# Altium footprint library MainBLib.PcbLib: 36 footprints (part 2 of 3)
Each footprint in its own frame and in the unit in brackets; x right, y up, seen from the top. Pads: shape width x height; smd on the part's side, far side on the other; paste and mask are expansions set on the pad; w line width, h text height; cw(c..) or ccw(c..) is an arc to the next point about the centre after c.
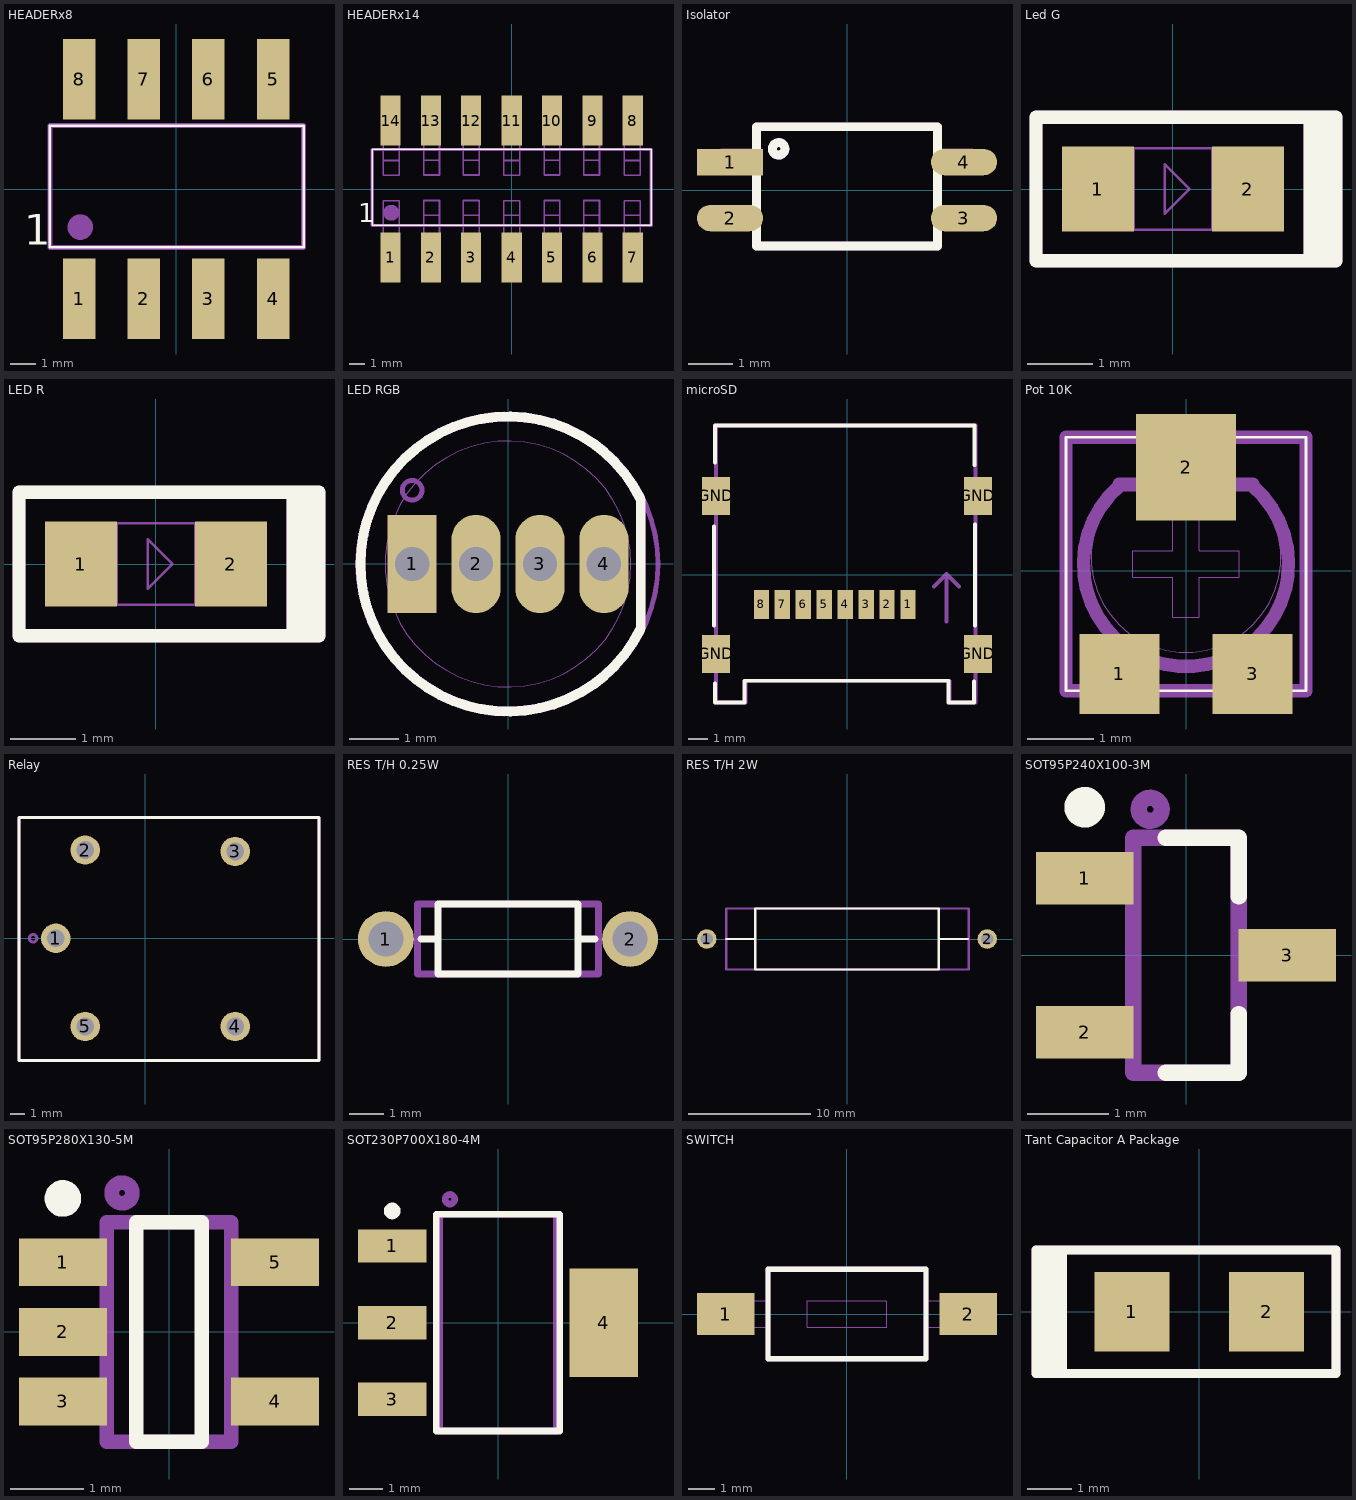
[diagram p1: the footprints below, top view; thin cyan lines are the x and y axes]

## HEADERx8 [mm]
pads (8):
  rect 1.27x3.18 smd: 1(-3.82,-4.32) 2(-1.28,-4.32) 3(1.26,-4.32) 4(3.82,-4.32) 5(3.82,4.32) 6(1.26,4.32) 7(-1.28,4.32) 8(-3.82,4.32)
Top Overlay:
  lines w0.1: -4.98,-2.3 -4.98,2.5 5.02,2.5 5.02,-2.3 -4.98,-2.3
  text "1" at -5.98,-2.2 h1.2
Mechanical 1:
  lines w0.1: -4.98,-2.3 5.02,-2.3 5.02,2.5 -4.98,2.5 -4.98,-2.3
Mechanical 29:
  circle w0.8: c-3.78,-1.5 r0.1
  lines w0.2: -4.98,-2.3 5.02,-2.3 5.02,2.5 -4.98,2.5 -4.98,-2.3
  text "'.Designator'" at -1.08,-0.4 h1.2
3D body: height 1, standoff 0, extent 3.321,1.801 4.32,5.3
3D body: height 9, standoff 0, extent 3.321,0.881 4.32,1.8
3D body: height 1, standoff 0, extent 0.761,1.806 1.76,5.305
3D body: height 9, standoff 0, extent 0.761,0.886 1.76,1.805
3D body: height 1, standoff 0, extent -1.739,1.806 -0.74,5.305
3D body: height 9, standoff 0, extent -1.739,0.886 -0.74,1.805
3D body: height 1, standoff 0, extent -4.279,1.801 -3.28,5.3
3D body: height 9, standoff 0, extent -4.279,0.881 -3.28,1.8
3D body: height 9, standoff 0, extent 3.321,-1.649 4.32,-0.73
3D body: height 9, standoff 0, extent 0.761,-1.644 1.76,-0.725
3D body: height 1, standoff 0, extent 3.321,-5.149 4.32,-1.65
3D body: height 1, standoff 0, extent 0.761,-5.144 1.76,-1.645
3D body: height 9, standoff 0, extent -1.739,-1.644 -0.74,-0.725
3D body: height 9, standoff 0, extent -4.279,-1.649 -3.28,-0.73
3D body: height 1, standoff 0, extent -1.739,-5.144 -0.74,-1.645
3D body: height 1, standoff 0, extent -4.279,-5.149 -3.28,-1.65
3D body: height 3.54, standoff 1, extent -5.03,-2.35 5.07,2.55

## HEADERx14 [mm]
pads (14):
  rect 1.27x3.18 smd: 1(-7.64,-4.32) 2(-5.1,-4.32) 3(-2.56,-4.32) 4(0,-4.32) 5(2.54,-4.32) 6(5.1,-4.32) 7(7.64,-4.32) 8(7.64,4.32) 9(5.1,4.32) 10(2.54,4.32) 11(0,4.32) 12(-2.56,4.32) 13(-5.1,4.32) 14(-7.64,4.32)
Top Overlay:
  lines w0.1: -8.8,-2.3 8.8,-2.3 8.8,2.5 -8.8,2.5 -8.8,-2.3
  text "1" at -9.7,-2.1 h1.2
Mechanical 1:
  lines w0.1: -8.1,-1.65 -7.1,-1.65 ; -8.1,1.8 -7.1,1.8 ; -8.1,2.5 -8.8,2.5 ; -8.099,-2.3 -8.799,-2.3 ; -7.1,-2.3 -5.559,-2.3 ; -7.1,2.501 -5.559,2.501 ; -5.56,-1.645 -4.56,-1.645 ; -5.56,1.805 -4.56,1.805 ; -4.56,-2.3 -3.059,-2.3 ; -4.56,2.501 -3.059,2.501 ; -3.06,-1.645 -2.06,-1.645 ; -3.06,1.805 -2.06,1.805 ; -2.06,-2.3 -1.2,-2.3 ; -2.06,2.501 -1.2,2.501 -0.5,2.5 ; -1.199,-2.3 -0.499,-2.3 ; -0.5,-1.65 0.5,-1.65 ; -0.5,1.8 0.5,1.8 ; 0.5,-2.3 2.041,-2.3 ; 0.5,2.501 2.041,2.501 ; 2.04,-1.645 3.04,-1.645 ; 2.04,1.805 3.04,1.805 ; 3.04,-2.3 4.541,-2.3 ; 3.04,2.501 4.541,2.501 ; 4.54,-1.645 5.54,-1.645 ; 4.54,1.805 5.54,1.805 ; 5.54,-2.3 6.4,-2.3 ; 5.54,2.501 6.4,2.501 7.1,2.5 ; 6.401,-2.3 7.101,-2.3 ; 7.1,-1.65 8.1,-1.65 ; 7.1,1.8 8.1,1.8 ; 8.1,-2.3 8.8,-2.3 ; 8.099,2.501 8.799,2.501 ; -8.8,-2.3 -8.8,2.5 ; -8.8,-2.3 -8.8,2.5 ; -8.8,-2.3 8.8,-2.3 ; -8.8,2.5 8.8,2.5 ; 8.8,-2.3 8.8,2.5 ; 8.8,-2.3 8.8,2.5 ; -8.1,-5.15 -8.1,-0.73 -7.1,-0.73 -7.1,-5.15 -8.1,-5.15 ; -8.1,0.88 -7.1,0.88 -7.1,5.3 -8.1,5.3 -8.1,0.88 ; -5.56,-5.145 -4.56,-5.145 -4.56,-0.725 -5.56,-0.725 -5.56,-5.145 ; -5.56,0.885 -5.56,5.305 -4.56,5.305 -4.56,0.885 -5.56,0.885 ; -3.06,-5.145 -2.06,-5.145 -2.06,-0.725 -3.06,-0.725 -3.06,-5.145 ; -3.06,0.885 -3.06,5.305 -2.06,5.305 -2.06,0.885 -3.06,0.885 ; -0.5,-5.15 -0.5,-0.73 0.5,-0.73 0.5,-5.15 -0.5,-5.15 ; -0.5,0.88 0.5,0.88 0.5,5.3 -0.5,5.3 -0.5,0.88 ; 2.04,-5.145 3.04,-5.145 3.04,-0.725 2.04,-0.725 2.04,-5.145 ; 2.04,0.885 2.04,5.305 3.04,5.305 3.04,0.885 2.04,0.885 ; 4.54,-5.145 5.54,-5.145 5.54,-0.725 4.54,-0.725 4.54,-5.145 ; 4.54,0.885 4.54,5.305 5.54,5.305 5.54,0.885 4.54,0.885 ; 7.1,-5.15 7.1,-0.73 8.1,-0.73 8.1,-5.15 7.1,-5.15 ; 7.1,0.88 8.1,0.88 8.1,5.3 7.1,5.3 7.1,0.88
Mechanical 29:
  circle w0.8: c-7.6,-1.5 r0.1
  lines w0.2: -8.8,-2.3 -8.8,2.5 8.8,2.5 8.8,-2.3 -8.8,-2.3
  text "'.Designator'" at -1.9,-0.4 h1.2
3D body: height 1, standoff 0, extent -8.099,-5.149 -7.1,-1.65
3D body: height 1, standoff 0, extent -5.559,-5.144 -4.56,-1.645
3D body: height 9, standoff 0, extent -8.099,-1.649 -7.1,-0.73
3D body: height 9, standoff 0, extent -5.559,-1.644 -4.56,-0.725
3D body: height 1, standoff 0, extent -3.059,-5.144 -2.06,-1.645
3D body: height 1, standoff 0, extent -0.499,-5.149 0.5,-1.65
3D body: height 9, standoff 0, extent -3.059,-1.644 -2.06,-0.725
3D body: height 9, standoff 0, extent -0.499,-1.649 0.5,-0.73
3D body: height 9, standoff 0, extent -8.099,0.881 -7.1,1.8
3D body: height 1, standoff 0, extent -8.099,1.801 -7.1,5.3
3D body: height 9, standoff 0, extent -5.559,0.886 -4.56,1.805
3D body: height 1, standoff 0, extent -5.559,1.806 -4.56,5.305
3D body: height 9, standoff 0, extent -3.059,0.886 -2.06,1.805
3D body: height 1, standoff 0, extent -3.059,1.806 -2.06,5.305
3D body: height 9, standoff 0, extent -0.499,0.881 0.5,1.8
3D body: height 1, standoff 0, extent -0.499,1.801 0.5,5.3
3D body: height 1, standoff 0, extent 2.041,-5.144 3.04,-1.645
3D body: height 1, standoff 0, extent 4.541,-5.144 5.54,-1.645
3D body: height 9, standoff 0, extent 2.041,-1.644 3.04,-0.725
3D body: height 9, standoff 0, extent 4.541,-1.644 5.54,-0.725
3D body: height 1, standoff 0, extent 7.101,-5.149 8.1,-1.65
3D body: height 9, standoff 0, extent 7.101,-1.649 8.1,-0.73
3D body: height 9, standoff 0, extent 2.041,0.886 3.04,1.805
3D body: height 1, standoff 0, extent 2.041,1.806 3.04,5.305
3D body: height 9, standoff 0, extent 4.541,0.886 5.54,1.805
3D body: height 1, standoff 0, extent 4.541,1.806 5.54,5.305
3D body: height 9, standoff 0, extent 7.101,0.881 8.1,1.8
3D body: height 1, standoff 0, extent 7.101,1.801 8.1,5.3
3D body: height 3.54, standoff 1, extent -8.799,-2.299 8.799,2.499

## Isolator [mm]
pads (4):
  rect 1.5x0.6 smd: 1(-2.65,0.635)
  oval 1.5x0.6 smd: 2(-2.65,-0.635) 3(2.65,-0.635) 4(2.65,0.635)
Top Overlay:
  circle w0.2: c-1.55,0.935 r0.141
  lines w0.2: -2.05,-1.265 2.05,-1.265 2.05,1.435 -2.05,1.435 -2.05,-1.265
Mechanical 1:
  circle w0: c-1.55,0.935 r0.141
  lines w0: -2.05,-0.865 -2.85,-0.865 -2.85,-0.365 -2.05,-0.365 ; -2.05,0.435 -2.85,0.435 -2.85,0.935 -2.05,0.935 ; 2.05,-0.865 2.85,-0.865 2.85,-0.365 2.05,-0.365 ; 2.05,0.435 2.85,0.435 2.85,0.935 2.05,0.935 ; -2.05,-1.265 -2.05,1.435 2.05,1.435 2.05,-1.265 -2.05,-1.265
Mechanical 29:
  circle w0.2: c-1.55,0.935 r0.141
  lines w0.2: -2.05,-1.265 -2.05,1.435 2.05,1.435 2.05,-1.265 -2.05,-1.265
  text "'.Designator'" at -0.85,-0.365 h1.2
3D body: height 2.01, standoff 2, extent -1.691,0.794 -1.409,1.076
3D body: height 0.2, standoff 0, extent 2.051,0.436 2.849,0.934
3D body: height 0.2, standoff 0, extent 2.051,-0.864 2.849,-0.366
3D body: height 0.2, standoff 0, extent -2.849,0.436 -2.051,0.934
3D body: height 2, standoff 0, extent -2.049,-1.264 2.049,1.434
3D body: height 0.2, standoff 0, extent -2.849,-0.864 -2.051,-0.366

## Led G [mm]
pads (2):
  rect 1.1x1.3 smd: 1(-1.15,0) 2(1.15,0)
Top Overlay:
  rectangle: 2,-1.1 2.5,1.1
  lines w0.2: -2.1,-1.1 -2.1,1.1 2.5,1.1 2.5,-1.1 -2.1,-1.1
Mechanical 1:
  lines w0.04: -0.6,-0.625 -0.6,0.625 ; -0.599,-0.624 0.599,-0.624 ; -0.6,-0.625 -0.599,-0.624 ; -0.6,-0.625 -1,-0.625 -1,-0.2 ccw(c-1,0) -1,0.2 -1,0.625 -0.6,0.625 ; -0.6,0.625 -0.6,0.625 ; -0.599,0.624 0.599,0.624 ; 0.6,-0.625 0.6,0.625 ; 0.6,-0.625 1,-0.625 1,-0.2 cw(c1,0) 1,0.2 1,0.625 0.6,0.625 ; -0.125,-0.376 -0.125,0.375 0.25,0 -0.125,-0.375 -0.125,-0.376
Mechanical 29:
  rectangle: 2,-1.1 2.5,1.1
  lines w0.2: -2.1,-1.1 2.5,-1.1 2.5,1.1 -2.1,1.1 -2.1,-1.1
  text "'.Designator'" at -1.1,-0.6 h1.2
3D body: height 1.1, standoff 0.6, extent -0.599,-0.624 0.599,0.624
3D body: height 0.6, standoff 0, extent -1.02,-0.645 1.02,0.645
3D body: height 0.61, standoff 0, extent -0.126,-0.376 0.251,0.376

## LED R [mm]
pads (2):
  rect 1.1x1.3 smd: 1(-1.15,0) 2(1.15,0)
Top Overlay:
  rectangle: 2,-1.1 2.5,1.1
  lines w0.2: -2.1,-1.1 -2.1,1.1 2.5,1.1 2.5,-1.1 -2.1,-1.1
Mechanical 1:
  lines w0.04: 0.6,-0.624 -0.599,-0.624 ; 0.6,0.625 -0.599,0.625 ; -0.6,-0.625 -0.6,0.625 ; -0.6,-0.625 -0.599,-0.624 ; -0.6,-0.625 -1,-0.625 -1,-0.2 ccw(c-1,0) -1,0.2 -1,0.625 -0.6,0.625 ; -0.6,0.625 -0.6,0.625 ; -0.125,-0.376 -0.125,0.375 0.25,0 -0.125,-0.375 -0.125,-0.376 ; 0.6,-0.625 0.6,0.625 1,0.625 1,0.2 ccw(c1,0) 1,-0.2 1,-0.625 0.6,-0.625
Mechanical 29:
  rectangle: 2,-1.1 2.5,1.1
  lines w0.2: -2.1,-1.1 2.5,-1.1 2.5,1.1 -2.1,1.1 -2.1,-1.1
  text "'.Designator'" at -1.1,-0.6 h1.2
3D body: height 1.1, standoff 0.6, extent -0.599,-0.624 0.6,0.625
3D body: height 0.6, standoff 0, extent -1.02,-0.645 1.02,0.645
3D body: height 0.61, standoff 0, extent -0.125,-0.376 0.251,0.376

## LED RGB [mm]
pads (4):
  rect 1x2 hole 0.7: 1(-1.95,0)
  oval 1x2 hole 0.7: 2(-0.65,0) 3(0.65,0) 4(1.95,0)
Top Overlay:
  lines w0.2: 2.683,-1.342 cw(c0,0) 2.683,1.342 ; 2.7,-1.3 2.7,1.3
Mechanical 1:
  circle w0.1: c0,0 r3.05
  circle w0: c0,0 r2.5
  lines w0: -2.2,-0.25 -2.2,0.25 -1.7,0.25 -1.7,-0.25 -2.2,-0.25 ; -0.9,-0.25 -0.4,-0.25 -0.4,0.25 -0.9,0.25 -0.9,-0.25 ; 0.4,-0.25 0.9,-0.25 0.9,0.25 0.4,0.25 0.4,-0.25 ; 1.7,-0.25 2.2,-0.25 2.2,0.25 1.7,0.25 1.7,-0.25
Mechanical 29:
  circle w0.1: c-1.95,1.5 r0.2
  lines w0.2: 2.683,-1.342 cw(c0,0) 2.683,1.342 ; 2.7,-1.3 2.7,1.3
  text "'.Designator'" at -0.85,-0.5 h1.2
3D body: height 9, standoff 8, extent -3.049,-3.049 3.049,3.049
3D body: height 16.65, standoff 11.65, extent -2.489,-2.497 2.5,2.497
3D body: height 8, standoff -2, extent 1.701,-0.249 2.199,0.249
3D body: height 8, standoff -2, extent 0.401,-0.249 0.899,0.249
3D body: height 8, standoff -2, extent -0.899,-0.249 -0.401,0.249
3D body: height 8, standoff -2, extent -2.199,-0.249 -1.701,0.249
3D body: height 14.15, standoff 8, extent -2.499,-2.499 2.499,2.499

## microSD [mm]
pads (12):
  rect 0.8x1.5 smd: 1(3.205,-1.55) 2(2.105,-1.55) 3(1.005,-1.55) 4(-0.095,-1.55) 5(-1.195,-1.55) 6(-2.295,-1.55) 7(-3.395,-1.55) 8(-4.495,-1.55)
  rect 1.45x2 smd: GND(-6.875,-4.15) GND(-6.875,4.15) GND(6.875,-4.15) GND(6.875,4.15)
Top Overlay:
  lines w0.2: -6.975,-2.65 -6.975,2.55 ; -6.925,-5.7 -6.925,-6.7 -5.375,-6.7 -5.375,-5.575 -5.35,-5.55 5.325,-5.55 5.325,-6.7 6.675,-6.7 6.675,-5.6 ; -6.925,5.9 -6.925,7.85 6.7,7.85 6.7,5.775 ; 6.725,-2.65 6.725,2.65
Mechanical 1:
  lines w0.1: -6.855,-5.05 -7.375,-5.05 -7.375,-4.35 -7.275,-4.25 -7.275,-3.975 -7.375,-3.875 -7.375,-3.25 -6.855,-3.25 ; -6.855,3.3 -7.4,3.3 -7.4,4 -7.3,4.1 -7.3,4.375 -7.4,4.475 -7.4,5.1 -6.855,5.1 ; 6.745,-5.05 7.425,-5.05 7.425,-4.425 7.325,-4.325 7.325,-4.05 7.425,-3.95 7.425,-3.25 6.745,-3.25 ; 6.745,3.25 7.425,3.25 7.425,3.875 7.325,3.975 7.325,4.25 7.425,4.35 7.425,5.05 6.746,5.05 ; -6.825,-6.7 -5.376,-6.7 -5.375,-6.699 -5.375,-5.55 5.325,-5.55 5.325,-6.7 6.744,-6.7 6.725,-6.681 6.725,7.8 -6.825,7.8 -6.825,-6.7
Mechanical 29:
  lines w0.2: 4.575,-0.6 5.225,0.05 ; 5.225,-2.45 5.225,0.05 ; 5.875,-0.6 5.225,0.05 ; 6.725,-6.7 5.375,-6.7 5.375,-5.55 -5.3,-5.55 -5.325,-5.575 -5.325,-6.7 -6.875,-6.7 -6.875,7.85 6.75,7.85 6.75,-6.7 ; 5.225,0.05 5.225,0.05 ; 5.225,0.05 5.225,0.05
  text "'.Designator'" at -1.375,2.05 h1.2
3D body: height 0.1, standoff 0, extent -7.401,-6.701 7.426,7.801
3D body: height 1.9, standoff 0, extent -6.826,-6.701 6.744,7.801

## Pot 10K [mm]
pads (3):
  rect 1.2x1.2 smd: 1(-1,-1.55) 3(1,-1.55)
  rect 1.5x1.6 smd: 2(0,1.55)
Top Overlay:
  lines w0.04: 0,2 1.8,2 ; 1.8,2 -1.8,2 -1.8,-1.8 1.8,-1.8 1.8,2
Mechanical 1:
  lines w0: 0,2 1.8,2 ; 1.8,2 -1.8,2 -1.8,-1.8 1.8,-1.8 1.8,2 ; -1.005,1.2 ccw(c0,0.195) 1.005,1.2 -1.005,1.2 ; -0.8,-0.1 -0.2,-0.1 -0.2,-0.7 0.2,-0.7 0.2,-0.1 0.8,-0.1 0.8,0.3 0.2,0.3 0.2,0.9 -0.2,0.9 -0.2,0.3 -0.8,0.3 -0.8,-0.1
Mechanical 29:
  circle w0.2: c-1.241,-1.4 r0.141
  lines w0.2: -1.005,1.265 ccw(c0,0.1) 1.005,1.265 ; -1.005,1.3 1.005,1.3 ; 0,2 1.8,2 ; 1.8,2 1.8,-1.8 -1.8,-1.8 -1.8,2 1.8,2
  text "'.Designator'" at -0.9,-0.5 h1.2
3D body: height 0.4, standoff 0, extent -1.8,-1.8 1.8,2
3D body: height 1.2, standoff 0.4, extent -1.429,-1.237 1.422,1.201
3D body: height 1.21, standoff 0, extent -0.799,-0.699 0.799,0.899

## Relay [mm]
pads (5):
  round 2 hole 1.2: 1(-6.1,0) 2(-4.1,6) 3(6.1,5.9) 4(6.1,-6) 5(-4.1,-6)
Top Overlay:
  lines w0.2: -8.6,-8.3 11.8,-8.3 11.8,8.2 -8.6,8.2 -8.6,0 -8.6,-8.3 ; -8.6,-8.3 -8.6,-8.3
Mechanical 1:
  circle w0.04: c-6.1,0 r0.5
  circle w0.04: c-4.1,6 r0.5
  circle w0.04: c6.1,5.9 r0.5
  circle w0.04: c6.1,-6 r0.5
  circle w0.04: c-4.1,-6 r0.5
  lines w0.2: -8.6,-8.3 -8.6,0 -8.6,8.2 11.8,8.2 11.8,-8.3 -8.6,-8.3 ; -8.6,-8.3 -8.6,-8.3
Mechanical 29:
  circle w0.2: c-7.641,0 r0.259
  lines w0.2: -8.6,-8.3 -8.6,0 -8.6,8.2 11.8,8.2 11.8,-8.3 -8.6,-8.3 ; -8.6,-8.3 -8.6,-8.3
  text "'.Designator'" at -3.1,-0.2 h1.2
3D body: height 18.5, standoff 0, extent -8.7,-8.4 11.9,8.3
3D body: height 0, standoff -3, extent -4.599,-6.499 -3.601,-5.501
3D body: height 0, standoff -3, extent -6.599,-0.499 -5.601,0.499
3D body: height 0, standoff -3, extent -4.599,5.501 -3.601,6.499
3D body: height 0, standoff -3, extent 5.601,-6.499 6.599,-5.501
3D body: height 0, standoff -3, extent 5.601,5.401 6.599,6.399

## RES T/H 0.25W [mm]
pads (2):
  round 1.6 hole 1: 1(-3.5,0) 2(3.5,0)
Top Overlay:
  lines w0.2: -2.5,0 -2,0 ; 2.5,0 2,0 ; -2,0 -2,-1 2,-1 2,0 ; -2,0 -2,1 2,1 2,0
Mechanical 1:
  lines w0.04: -3.6,-0.3 -3.6,0.3 -3,0.3 -3,-0.3 -3.6,-0.3 ; 3,-0.3 3.6,-0.3 3.6,0.3 3,0.3 3,-0.3
Mechanical 29:
  lines w0.2: -2.6,-1 -2.6,1 2.6,1 2.6,-1 -2.6,-1
  text "'.Designator'" at -1.5,-0.5 h1.2
3D body: height 1.15, standoff -2, extent 3.001,-0.299 3.599,0.299
3D body: height 1.15, standoff -2, extent -3.599,-0.299 -3.001,0.299
3D body: height 2.29, standoff 0, extent -3,-1.1 3,1.196

## RES T/H 2W [mm]
pads (2):
  round 1.6 hole 1: 1(-11.5,0) 2(11.5,0)
Top Overlay:
  lines w0.2: -9.9,0 -7.525,0 ; 7.525,0 9.9,0 ; -7.525,0 -7.525,2.5 7.525,2.5 7.525,-2.5 -7.525,-2.5 -7.525,0
Mechanical 1:
  circle w0: c-11.5,0 r0.5
  circle w0: c11.5,0 r0.5
Mechanical 29:
  lines w0.2: -9.9,-2.5 10,-2.5 10,2.5 -9.9,2.5 -9.9,-2.5
  text "'.Designator'" at -2.2,-0.5 h1.2
3D body: height 12, standoff 4, extent -11.25,-4 11.25,3.994
3D body: height 8, standoff -2, extent -11.999,-0.499 -11.001,0.499
3D body: height 8, standoff -2, extent 11.001,-0.499 11.999,0.499

## SOT95P240X100-3M [mm] "SOT23, 3-Leads, Body 2.90x2.40mm, Pitch 0.95mm, IPC Low Density"
height 1
pads (3):
  rect 1.2x0.65 smd: 1(-1.25,0.95) 2(-1.25,-0.95) 3(1.25,0)
Top Overlay:
  circle w0.25: c-1.25,1.825 r0.125
  lines w0.2: -0.25,-1.45 0.65,-1.45 0.65,-0.725 ; -0.25,1.45 0.65,1.45 0.65,0.725
Mechanical 29:
  circle w0.2: c-0.441,1.8 r0.141
  lines w0.2: -0.65,-1.45 -0.65,1.45 0.65,1.45 0.65,-1.45 -0.65,-1.45
  text "'.Designator'" at 0.5,-1.2 h0.9
3D body "SOT95P240X100-3M.step": height 1, standoff 0, extent -1.2,-1.45 1.2,1.45

## SOT95P280X130-5M [mm] "SOT23, 5-Leads, Body 2.90x2.80mm, Pitch 0.95mm, IPC Low Density"
height 1.3
pads (5):
  rect 1.2x0.65 smd: 1(-1.45,0.95) 2(-1.45,0) 3(-1.45,-0.95) 4(1.45,-0.95) 5(1.45,0.95)
Top Overlay:
  circle w0.25: c-1.45,1.825 r0.125
  lines w0.2: -0.45,-1.5 0.45,-1.5 0.45,1.5 -0.45,1.5 -0.45,-1.5
Mechanical 29:
  circle w0.2: c-0.641,1.9 r0.141
  lines w0.2: -0.85,-1.5 0.85,-1.5 0.85,1.5 -0.85,1.5 -0.85,-1.5
  text "'.Designator'" at 0.5,-0.6 h1
3D body "SOT95P280X130-5M.step": height 1.3, standoff 0, extent -1.5,-1.5 1.5,1.5

## SOT230P700X180-4M [mm] "SOT223, 4-Leads, Body 6.40x7.00mm (avg), Pitch 2.30mm, IPC Low Density"
height 1.8
pads (4):
  rect 2.05x1 smd: 1(-3.175,2.3) 2(-3.175,0) 3(-3.175,-2.3)
  rect 2.05x3.25 smd: 4(3.175,0)
Top Overlay:
  circle w0.25: c-3.175,3.35 r0.125
  lines w0.2: -1.85,-3.25 -1.85,3.25 1.85,3.25 1.85,-3.25 -1.85,-3.25
Mechanical 29:
  circle w0.2: c-1.441,3.7 r0.141
  lines w0.2: -1.75,-3.25 1.75,-3.25 1.75,3.25 -1.75,3.25 -1.75,-3.25
  text "'.Designator'" at 0.5,-1 h1.2
3D body "SOT230P700X180-4M.step": height 1.8, standoff 0, extent -3.5,-3.25 3.5,3.25

## SWITCH [mm]
pads (2):
  rect 2.18x1.6 smd: 1(-4.6,0) 2(4.6,0)
Top Overlay:
  lines w0.2: -3,-1.7 -3,1.7 3,1.7 3,-1.7 -3,-1.7
Mechanical 1:
  lines w0: -3,-0.5 -4.7,-0.5 -4.7,0.5 -3,0.5 ; 3,-0.5 4.7,-0.5 4.7,0.5 3,0.5 ; -3,-1.7 3,-1.7 3,1.7 -3,1.7 -3,-1.7 ; -1.5,-0.5 1.5,-0.5 1.5,0.5 -1.5,0.5 -1.5,-0.5
Mechanical 29:
  lines w0.2: -3,-1.7 3,-1.7 3,1.7 -3,1.7 -3,-1.7
  text "'.Designator'" at -1.5,-0.5 h1.2
3D body: height 0.1, standoff 0, extent 3.001,-0.499 4.699,0.499
3D body: height 4.1, standoff 3.5, extent -1.499,-0.499 1.499,0.499
3D body: height 0.1, standoff 0, extent -4.699,-0.499 -3.001,0.499
3D body: height 3.5, standoff 0, extent -3.1,-1.8 3.1,1.8

## Tant Capacitor A Package [mm]
pads (2):
  rect 1.7x1.8 smd: 1(-1.525,0) 2(1.525,0)
Top Overlay:
  rectangle: -3.7,-1.5 -3,1.4
  lines w0.2: -3.7,-1.4 -3.7,1.4 3.1,1.4 3.1,-1.4 -3.7,-1.4
Mechanical 29:
  rectangle: -3.7,-1.5 -3,1.4
  lines w0.2: -3.7,-1.4 3.1,-1.4 3.1,1.4 -3.7,1.4 -3.7,-1.4
  text "'.Designator'" at -2.5,-0.5 h1.2